# Altium schematic symbol library 1600p_F_0603.SchLib: 1 symbol
Pins are listed as number, name and electrical type; pins without a type are passive.

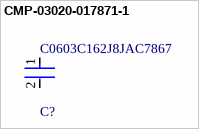
[diagram p0: symbol CMP-03020-017871-1]

## CMP-03020-017871-1
designator C?, comment C0603C162J8JAC7867
CAP CER 1600PF 10V U2J 0603; Manufacturer: KEMET; Value: 1,600 pF; Automotive Grade: Grade 1; Temperature Coefficient: 30ppm/°C; Material: Ceramic; Tolerance: 0.05; Voltage Rating: 10 V; ComponentLink2URL: https://api.kemet.com/component-edge/download/datasheet/C0603C100J5GACAUTO.pdf; Package: C0603C-CF; ComponentLink2Description: Datasheet; Octopart: https://octopart.com/c0603c162j8jac7867-kemet-75363443; Digikey Description: CAP CER 1600PF 10V U2J 0603; Category: Cap; Lead Free: Yes; Temperature Range High: +125°C; Automotive: Yes; Capacitance: 1,600 pF; Device Class L2: Capacitors; Device Class L3: Ceramic Capacitors; Temperature Characteristic: U2J; Temperature Range Low: -55°C; Height: 0.87mm; RoHS: TRUE; Temperature: -55°C to +125°C; Device Class L1: Passive Components; Manufacturer Part Number: C0603C162J8JAC7867
footprint FP-C0603C-CF-IPC_B
footprint FP-C0603C-CF-MFG
footprint FP-C0603C-CF-IPC_A
footprint FP-C0603C-CF-IPC_C
pins: 1, 2